# Altium schematic symbol library SN74LVC3G07QDCURQ1.SchLib: 1 symbol
Pins are listed as number, name and electrical type; pins without a type are passive.

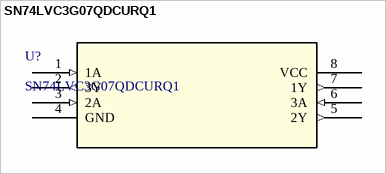
[diagram p0: symbol SN74LVC3G07QDCURQ1]

## SN74LVC3G07QDCURQ1
designator U?
Automotive 3-ch, 1.65-V to 5.5-V buffers with open-drain outputs 8-VSSOP -40 to 125; Manufacturer_Name: Texas Instruments; Copyright: Copyright (C) 2025 Ultra Librarian. All rights reserved.; MPN: SN74LVC3G07QDCURQ1; Datasheet: https://www.ti.com/lit/gpn/sn74lvc3g07-q1; RefDes: RefDes; Type: Type
footprint DCU8_TEX
pins: 1 1A (in), 2 3Y (out), 3 2A (in), 4 GND (power), 5 2Y (out), 6 3A (in), 7 1Y (out), 8 VCC (power)